# Altium schematic symbol library MAX3232.SchLib: 1 symbol
Pins are listed as number, name and electrical type; pins without a type are passive.

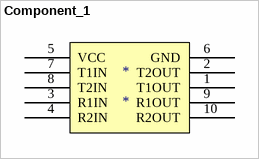
[diagram p0: symbol Component_1]

## Component_1
designator *
pins: 1 T1OUT, 2 T2OUT, 3 R1IN, 4 R2IN, 5 VCC, 6 GND, 7 T1IN, 8 T2IN, 9 R1OUT, 10 R2OUT